# Altium footprint library NanoEEG_v2_MCU.PcbLib: 26 footprints (part 1 of 2)
Each footprint in its own frame and in the unit in brackets; x right, y up, seen from the top. Pads: shape width x height; smd on the part's side, far side on the other; paste and mask are expansions set on the pad; w line width, h text height; cw(c..) or ccw(c..) is an arc to the next point about the centre after c.
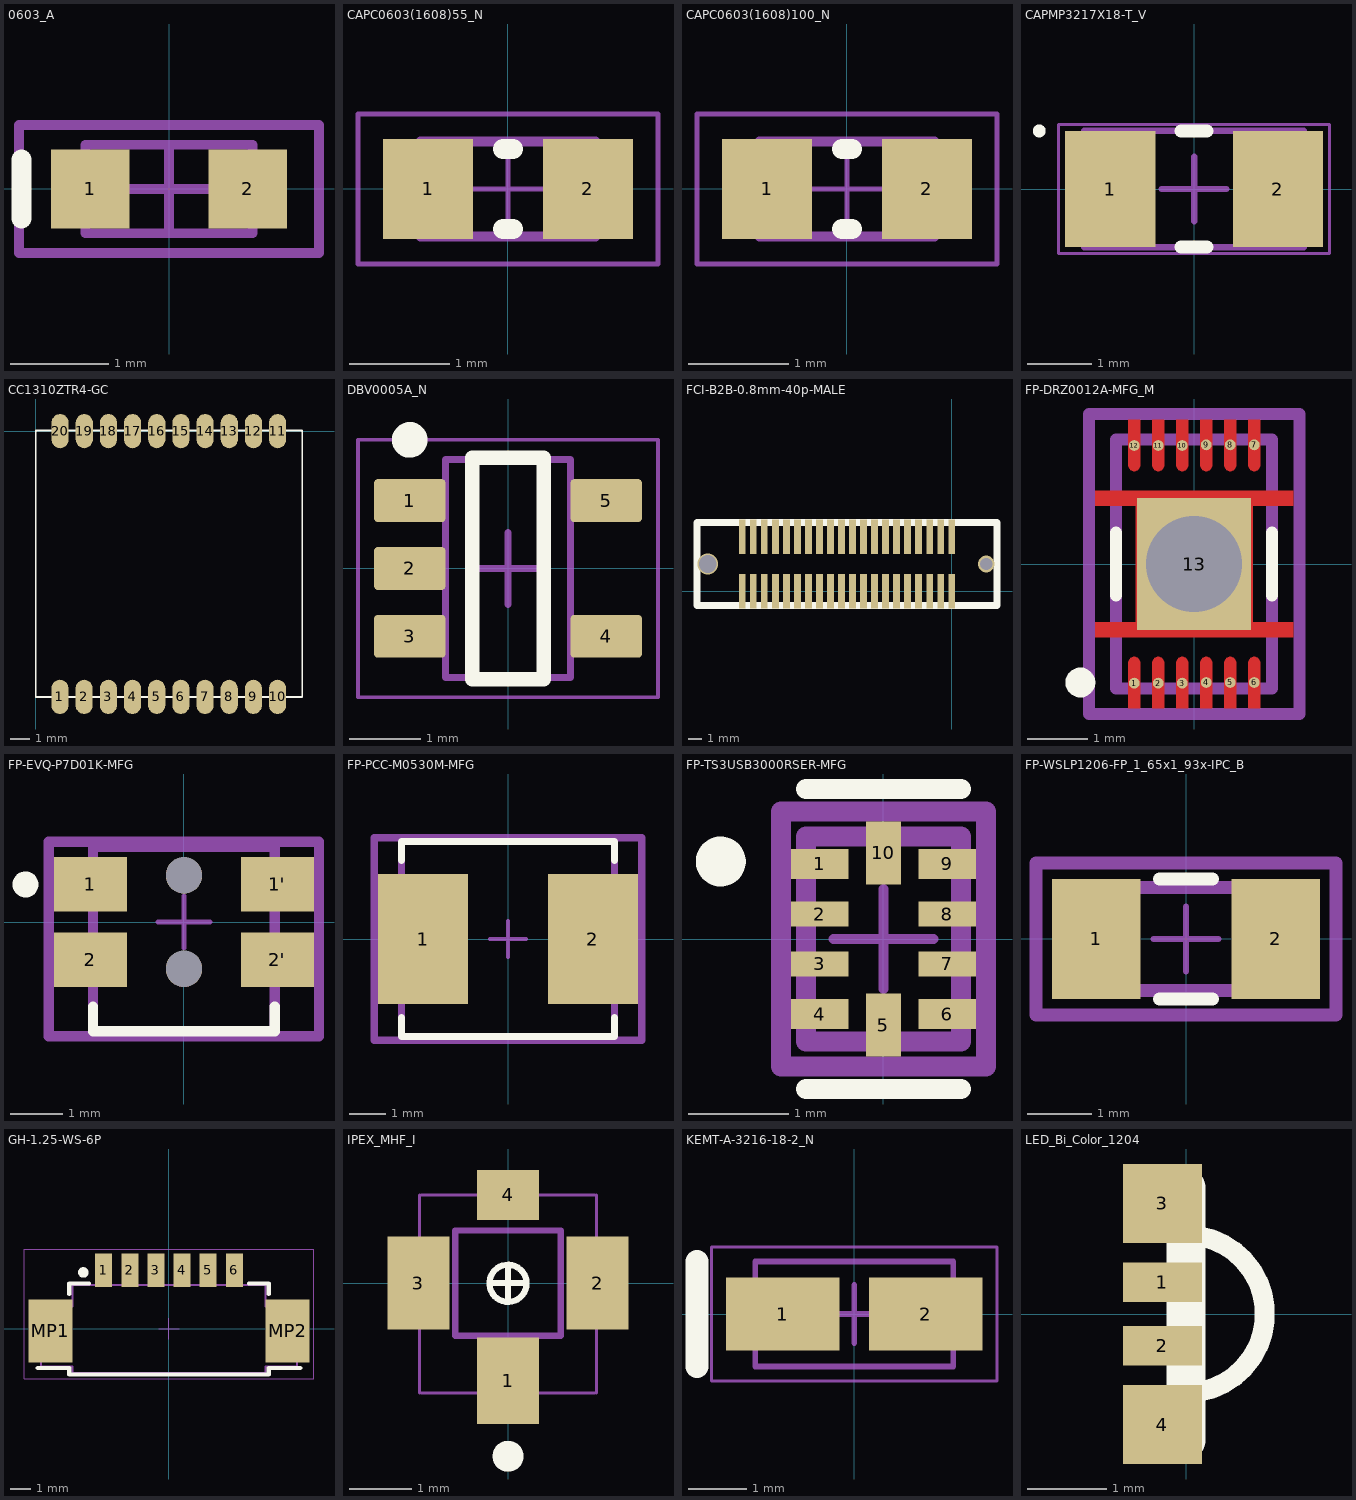
[diagram p0: the footprints below, top view; thin cyan lines are the x and y axes]

## 0603_A [mm]
pads (2):
  rect 0.8x0.8 smd: 1(-0.8,0) 2(0.8,0)
Top Overlay:
  lines w0.2: -1.5,-0.3 -1.5,0.3
Mechanical 13:
  lines w0.1: -0.85,-0.45 0.85,-0.45 0.85,0.45 -0.85,0.45 -0.85,-0.45
Mechanical 15:
  lines w0.1: -0.45,0 0.45,0 ; 0,-0.45 0,0.45 ; -1.525,-0.65 1.525,-0.65 1.525,0.65 -1.525,0.65 -1.525,-0.65
3D body "WL-SMCW_0603_LED.stp": height 0.7, standoff 0, extent -0.8,-0.4 0.8,0.4

## CAPC0603(1608)55_N [mm]
pads (2):
  rect 0.9x1 smd: 1(-0.8,0) 2(0.8,0)
Top Overlay:
  lines w0.2: -0.05,-0.4 0.05,-0.4 ; -0.05,0.4 0.05,0.4
Mechanical 13:
  lines w0.1: -0.875,-0.475 -0.875,0.475 0.875,0.475 0.875,-0.475 -0.875,-0.475
Mechanical 15:
  lines w0.05: -0.475,0 0.475,0 ; 0,-0.475 0,0.475 ; -1.5,-0.75 -1.5,0.75 1.5,0.75 1.5,-0.75 -1.5,-0.75
3D body: height 0.55, standoff 0, extent -0.525,-0.475 0.525,0.475
3D body: height 0.55, standoff 0, extent -0.875,-0.475 -0.525,0.475
3D body: height 0.55, standoff 0, extent 0.525,-0.475 0.875,0.475

## CAPC0603(1608)100_N [mm]
pads (2):
  rect 0.9x1 smd: 1(-0.8,0) 2(0.8,0)
Top Overlay:
  lines w0.2: -0.05,-0.4 0.05,-0.4 ; -0.05,0.4 0.05,0.4
Mechanical 13:
  lines w0.1: -0.875,-0.475 0.875,-0.475 0.875,0.475 -0.875,0.475 -0.875,-0.475
Mechanical 15:
  lines w0.05: -0.475,0 0.475,0 ; 0,-0.475 0,0.475 ; -1.5,-0.75 1.5,-0.75 1.5,0.75 -1.5,0.75 -1.5,-0.75
3D body: height 1, standoff 0, extent 0.525,-0.475 0.875,0.475
3D body: height 1, standoff 0, extent -0.875,-0.475 -0.525,0.475
3D body: height 1, standoff 0, extent -0.525,-0.475 0.525,0.475

## CAPMP3217X18-T_V [mm]
pads (2):
  rect 1.4x1.8 smd: 1(-1.3,0) 2(1.3,0)
Top Overlay:
  circle w0.1: c-2.4,0.9 r0.05
  lines w0.2: -0.2,-0.9 0.2,-0.9 ; -0.2,0.9 0.2,0.9
Mechanical 13:
  region: -1.243,0.9 -1.7,0.9 -1.7,-0.9 -1.243,-0.9
  lines w0.1: -1.7,-0.9 1.7,-0.9 1.7,0.9 -1.7,0.9 -1.7,-0.9
Mechanical 15:
  lines w0.05: -2.1,-1 -2.1,1 2.1,1 2.1,-1 -2.1,-1
  lines w0.1: -0.5,0 0.5,0 ; 0,-0.5 0,0.5
3D body "CAPMP3217X18L.step": height 1.8, standoff 0, extent -1.92,-0.9 1.92,0.9

## CC1310ZTR4-GC [mm]
pads (20):
  oval 0.9x1.8 smd: 1(1.27,-13.945) 2(2.544,-13.945) 3(3.814,-13.945) 4(5.084,-13.945) 5(6.354,-13.945) 6(7.624,-13.945) 7(8.894,-13.945) 8(10.164,-13.945) 9(11.434,-13.945) 10(12.704,-13.945) 11(12.708,0.015) 12(11.438,0.015) 13(10.168,0.015) 14(8.898,0.015) 15(7.628,0.015) 16(6.358,0.015) 17(5.088,0.015) 18(3.818,0.015) 19(2.548,0.015) 20(1.28,0.015)
Top Overlay:
  lines w0.1: 0,-13.945 0,0.055 14,0.055 14,-13.945 0,-13.945

## DBV0005A_N [mm]
pads (5):
  rrect17% 1x0.6 smd: 1(-1.375,0.95) 2(-1.375,0) 3(-1.375,-0.95) 4(1.375,-0.95) 5(1.375,0.95)
Top Overlay:
  circle w0.25: c-1.375,1.8 r0.125
  lines w0.2: -0.5,-1.55 0.5,-1.55 0.5,1.55 -0.5,1.55 -0.5,-1.55
Mechanical 1:
Mechanical 13:
  lines w0.1: -0.875,-1.525 -0.875,1.525 0.875,1.525 0.875,-1.525 -0.875,-1.525
Mechanical 15:
  lines w0.05: -2.1,-1.8 -2.1,1.8 2.1,1.8 2.1,-1.8 -2.1,-1.8
  lines w0.1: -0.5,0 0.5,0 ; 0,-0.5 0,0.5
3D body "DBV0005AaksMF05A.stp": height 1.08, standoff -0.01, extent -1.422,-1.461 1.422,1.46

## FCI-B2B-0.8mm-40p-MALE [mm]
pads (42):
  rect 0.5x2.5 smd: 1(0,0) 1(0,0) 2(0,3.93) 2(0,3.93) 3(-0.8,0) 4(-0.8,3.93) 5(-1.6,0) 6(-1.6,3.93) 7(-2.4,0) 8(-2.4,3.93) 9(-3.2,0) 10(-3.2,3.93) 11(-4,0) 12(-4,3.93) 13(-4.8,0) 14(-4.8,3.93) 15(-5.6,0) 16(-5.6,3.93) 17(-6.4,0) 18(-6.4,3.93) 19(-7.2,0) 20(-7.2,3.93) 21(-8,0) 22(-8,3.93) 23(-8.8,0) 24(-8.8,3.93) 25(-9.6,0) 26(-9.6,3.93) 27(-10.4,0) 28(-10.4,3.93) 29(-11.2,0) 30(-11.2,3.93) 31(-12,0) 32(-12,3.93) 33(-12.8,0) 34(-12.8,3.93) 35(-13.6,0) 36(-13.6,3.93) 37(-14.4,0) 38(-14.4,3.93) 39(-15.2,0) 40(-15.2,3.93)
via -17.7,1.965 diameter 1.5 hole 1.3
via 2.5,1.965 diameter 1.2 hole 0.9
Top Overlay:
  lines w0.5: -18.48,-1.035 -18.48,1.965 -18.48,4.965 3.28,4.965 3.28,1.965 3.28,-1.035 -18.48,-1.035
3D body "c-1-5177986-1-d-3d.stp": height 5.6, standoff -0.5, extent -18.5,-1.035 3.3,4.965
3D body: height 0.25, standoff -11, extent -7.6,1.965 -7.6,1.965

## FP-DRZ0012A-MFG_M [mm]
pads (13):
  round 0.18 smd paste-1000 mask+0: 1(-1,-1.985) 2(-0.6,-1.985) 3(-0.2,-1.985) 4(0.2,-1.975) 5(0.6,-1.975) 6(1,-1.975) 7(1,1.985) 8(0.6,1.985) 9(0.2,1.985) 10(-0.2,1.975) 11(-0.6,1.975) 12(-1,1.975)
  rect 1.9x2.2 hole 1.6 paste-1000 mask+0: 13(0,0)
Top Layer:
  region: -1.65,1.225 1.65,1.225 1.65,0.975 0.975,0.975 0.975,-0.975 1.65,-0.975 1.65,-1.225 -1.65,-1.225 -1.65,-0.975 -0.975,-0.975 -0.975,0.975 -1.65,0.975
  region: -1.1,-2.4 -1.1,-1.65 -1.1,-1.63 -1.085,-1.593 -1.057,-1.565 -1.02,-1.55 -1,-1.55 -0.98,-1.55 -0.943,-1.565 -0.915,-1.593 -0.9,-1.63 -0.9,-1.65 -0.9,-2.4
  region: -0.7,-2.4 -0.7,-1.65 -0.7,-1.63 -0.685,-1.593 -0.657,-1.565 -0.62,-1.55 -0.6,-1.55 -0.58,-1.55 -0.543,-1.565 -0.515,-1.593 -0.5,-1.63 -0.5,-1.65 -0.5,-2.4
  region: -0.3,-2.4 -0.3,-1.65 -0.3,-1.63 -0.285,-1.593 -0.257,-1.565 -0.22,-1.55 -0.2,-1.55 -0.18,-1.55 -0.143,-1.565 -0.115,-1.593 -0.1,-1.63 -0.1,-1.65 -0.1,-2.4
  region: 0.1,-2.4 0.1,-1.65 0.1,-1.63 0.115,-1.593 0.143,-1.565 0.18,-1.55 0.2,-1.55 0.22,-1.55 0.257,-1.565 0.285,-1.593 0.3,-1.63 0.3,-1.65 0.3,-2.4
  region: 0.5,-2.4 0.5,-1.65 0.5,-1.63 0.515,-1.593 0.543,-1.565 0.58,-1.55 0.6,-1.55 0.62,-1.55 0.657,-1.565 0.685,-1.593 0.7,-1.63 0.7,-1.65 0.7,-2.4
  region: 0.9,-2.4 0.9,-1.65 0.9,-1.63 0.915,-1.593 0.943,-1.565 0.98,-1.55 1,-1.55 1.02,-1.55 1.057,-1.565 1.085,-1.593 1.1,-1.63 1.1,-1.65 1.1,-2.4
  region: 1.1,2.4 1.1,1.65 1.1,1.63 1.085,1.593 1.057,1.565 1.02,1.55 1,1.55 0.98,1.55 0.943,1.565 0.915,1.593 0.9,1.63 0.9,1.65 0.9,2.4
  region: 0.7,2.4 0.7,1.65 0.7,1.63 0.685,1.593 0.657,1.565 0.62,1.55 0.6,1.55 0.58,1.55 0.543,1.565 0.515,1.593 0.5,1.63 0.5,1.65 0.5,2.4
  region: 0.3,2.4 0.3,1.65 0.3,1.63 0.285,1.593 0.257,1.565 0.22,1.55 0.2,1.55 0.18,1.55 0.143,1.565 0.115,1.593 0.1,1.63 0.1,1.65 0.1,2.4
  region: -0.1,2.4 -0.1,1.65 -0.1,1.63 -0.115,1.593 -0.143,1.565 -0.18,1.55 -0.2,1.55 -0.22,1.55 -0.257,1.565 -0.285,1.593 -0.3,1.63 -0.3,1.65 -0.3,2.4
  region: -0.5,2.4 -0.5,1.65 -0.5,1.63 -0.515,1.593 -0.543,1.565 -0.58,1.55 -0.6,1.55 -0.62,1.55 -0.657,1.565 -0.685,1.593 -0.7,1.63 -0.7,1.65 -0.7,2.4
  region: -0.9,2.4 -0.9,1.65 -0.9,1.63 -0.915,1.593 -0.943,1.565 -0.98,1.55 -1,1.55 -1.02,1.55 -1.057,1.565 -1.085,1.593 -1.1,1.63 -1.1,1.65 -1.1,2.4
Top Overlay:
  circle w0.25: c-1.9,-1.975 r0.125
  lines w0.2: -1.3,-0.525 -1.3,0.525 ; 1.3,-0.525 1.3,0.525
Top Paste:
  drawing of 20 lines, arcs and shapes, not listed
Top 3D Body:
  lines w0.2: -1.3,-2.075 1.3,-2.075 1.3,2.075 -1.3,2.075 -1.3,-2.075
Top Courtyard:
  lines w0.2: -1.75,-2.5 1.75,-2.5 1.75,2.5 -1.75,2.5 -1.75,-2.5
Top Assembly:
  lines w0.2: -1.75,-2.5 1.75,-2.5 1.75,2.5 -1.75,2.5 -1.75,-2.5
  text ".Designator" at -2.134,-0.33 h1
Top Component Center:
  lines w0.1: -0.5,0 0.5,0 ; 0,-0.5 0,0.5
3D body "IC_Texas_Instruments_BQ27441DRZR-G1A_eec.STEP": height 0.25, standoff 0, extent -1.75,-2.5 1.75,2.5

## FP-EVQ-P7D01K-MFG [mm]
pads (6):
  rect 1.4x1.05 smd paste+0 mask+0: 1(-1.8,0.725) 1'(1.8,0.725) 2(-1.8,-0.725) 2'(1.8,-0.725)
  round 0.7 hole 0.7 unplated paste-1000 mask+0: ""(0,-0.9) ""(0,0.9)
Top Overlay:
  circle w0.25: c-3.05,0.725 r0.125
  lines w0.2: -1.75,-1.625 -1.75,-2.1 1.75,-2.1 1.75,-1.625
Top 3D Body:
  lines w0.2: -1.75,-2.1 -1.75,1.45 1.75,1.45 1.75,-2.1 -1.75,-2.1
Top Courtyard:
  lines w0.2: -2.6,-2.2 -2.6,1.55 2.6,1.55 2.6,-2.2 -2.6,-2.2
Top Assembly:
  lines w0.2: -2.6,-2.2 -2.6,1.55 2.6,1.55 2.6,-2.2 -2.6,-2.2
  text ".Designator" at 0,-0.325 h1
Top Component Center:
  lines w0.1: -0.5,0 0.5,0 ; 0,-0.5 0,0.5
3D body "Switch_Panasonic_Electronic_Components_EVQ-P7D01K_eec.STEP": height 0.25, standoff 0, extent -2.6,-2.2 2.6,1.55

## FP-PCC-M0530M-MFG [mm]
pads (2):
  rect 2.5x3.6 smd paste+0 mask+0: 1(-2.35,0) 2(2.35,0)
Top Overlay:
  lines w0.2: -2.95,-2.175 -2.95,-2.7 2.95,-2.7 2.95,-2.175 ; -2.95,2.175 -2.95,2.7 2.95,2.7 2.95,2.175
Top 3D Body:
  lines w0.2: -2.95,-2.7 2.95,-2.7 2.95,2.7 -2.95,2.7 -2.95,-2.7
Top Courtyard:
  lines w0.2: -3.7,-2.8 3.7,-2.8 3.7,2.8 -3.7,2.8 -3.7,-2.8
Top Assembly:
  lines w0.2: -3.7,-2.8 3.7,-2.8 3.7,2.8 -3.7,2.8 -3.7,-2.8
  text ".Designator" at 0,0.188 h0.76
Top Component Center:
  lines w0.1: -0.5,0 0.5,0 ; 0,-0.5 0,0.5
3D body "Ind_Panasonic_ETQ-P3M2R2YFP_eec.STEP": height 0.25, standoff 0, extent -3.7,-2.8 3.7,2.8

## FP-TS3USB3000RSER-MFG [mm]
pads (10):
  rect 0.575x0.3 smd paste-1000 mask+0: 1(-0.637,0.75) 4(-0.637,-0.75) 6(0.637,-0.75) 9(0.637,0.75)
  rect 0.575x0.25 smd paste-1000 mask+0: 2(-0.637,0.25) 3(-0.637,-0.25) 7(0.637,-0.25) 8(0.637,0.25)
  rect 0.35x0.63 smd paste-1000 mask+0: 5(0,-0.86) 10(0,0.86)
Top Overlay:
  circle w0.25: c-1.625,0.775 r0.125
  lines w0.2: -0.775,-1.5 0.775,-1.5 ; -0.775,1.5 0.775,1.5
Top Paste:
  rectangle: -0.9,0.625 -0.375,0.875
  rectangle: -0.9,0.125 -0.375,0.375
  rectangle: -0.9,-0.375 -0.375,-0.125
  rectangle: -0.9,-0.875 -0.375,-0.625
  rectangle: 0.375,-0.875 0.9,-0.625
  rectangle: 0.375,-0.375 0.9,-0.125
  rectangle: 0.375,0.125 0.9,0.375
  rectangle: 0.375,0.625 0.9,0.875
  rectangle: -0.15,-1.15 0.15,-0.57
  rectangle: -0.15,0.57 0.15,1.15
Top 3D Body:
  lines w0.2: -0.775,-1.025 0.775,-1.025 0.775,1.025 -0.775,1.025 -0.775,-1.025
Top Courtyard:
  lines w0.2: -1.025,-1.275 1.025,-1.275 1.025,1.275 -1.025,1.275 -1.025,-1.275
Top Assembly:
  lines w0.2: -1.025,-1.275 1.025,-1.275 1.025,1.275 -1.025,1.275 -1.025,-1.275
  text ".Designator" at 0,0.188 h1
Top Component Center:
  lines w0.1: -0.5,0 0.5,0 ; 0,-0.5 0,0.5
3D body "IC_Texas_Instruments_TS3USB3000RSER_eec.STEP": height 0.25, standoff 0, extent -1.025,-1.275 1.025,1.275

## FP-WSLP1206-FP_1_65x1_93x-IPC_B [mm]
pads (2):
  rect 1.37x1.859 smd paste+0 mask+0: 1(-1.395,0) 2(1.395,0)
Top Overlay:
  lines w0.2: -0.41,-0.929 0.41,-0.929 ; -0.41,0.929 0.41,0.929
Top 3D Body:
  lines w0.2: -1.6,-0.8 1.6,-0.8 1.6,0.8 -1.6,0.8 -1.6,-0.8
Top Courtyard:
  lines w0.2: -2.329,-1.179 2.329,-1.179 2.329,1.179 -2.329,1.179 -2.329,-1.179
Top Assembly:
  lines w0.2: -2.329,-1.179 2.329,-1.179 2.329,1.179 -2.329,1.179 -2.329,-1.179
  text ".Designator" at 0,0.188 h1
Top Component Center:
  lines w0.1: -0.5,0 0.5,0 ; 0,-0.5 0,0.5
3D body "Res_Vishay_WSLP1206R0100FEA_eec.STEP": height 0.25, standoff 0, extent -2.329,-1.179 2.329,1.179

## GH-1.25-WS-6P [mm]
pads (8):
  rect 0.81x1.6 smd: 1(-3.125,2.8) 2(-1.875,2.8) 3(-0.625,2.8) 4(0.625,2.8) 5(1.875,2.8) 6(3.125,2.8)
  rect 2.1x3 smd: MP1(-5.675,-0.1) MP2(5.675,-0.1)
Top Overlay:
  circle w0.25: c-4.1,2.7 r0.125
  lines w0.2: -6.275,-1.875 -4.775,-1.875 -4.775,-2.175 4.775,-2.175 4.775,-1.875 6.275,-1.875 ; -4.775,1.675 -4.775,2.175 -3.825,2.175 ; 3.825,2.175 4.775,2.175 4.775,1.675
Mechanical 13:
  lines w0.1: -6.125,-1.78 -6.125,1.08 -4.625,1.08 -4.625,2.1 4.625,2.1 4.625,1.08 6.125,1.08 6.125,-1.78 ; -6.105,-1.8 -4.625,-1.8 -4.625,-2.1 4.625,-2.1 4.625,-1.8 6.105,-1.8
Mechanical 15:
  lines w0.05: -0.5,0 0.5,0 ; 0,-0.5 0,0.5 ; -6.925,-2.375 -6.925,3.8 6.925,3.8 6.925,-2.375 -6.925,-2.375
3D body "653106131822.stp": height 3.4, standoff -0.01, extent -6.125,-2.1 6.125,3.3

## IPEX_MHF_I [mm]
pads (4):
  rect 1x1.4 smd: 1(0,-1.575)
  rect 1x1.5 smd: 2(1.448,0) 3(-1.448,0)
  rect 1x0.8 smd: 4(0,1.422)
Top Overlay:
  circle w0.25: c0,-2.794 r0.125
  circle w0.1: c0,-0.003 r0.3
  lines w0.1: -0.25,0 0.25,0 ; 0,-0.25 0,0.25
Mechanical 13:
  lines w0.1: -0.85,-0.85 -0.85,0.85 0.85,0.85 0.85,-0.85 -0.85,-0.85
Mechanical 15:
  lines w0.05: -1.425,-1.775 -1.425,1.425 ; -1.4,-1.775 1.4,-1.775 ; -1.4,1.425 1.4,1.425 ; 1.425,-1.775 1.425,1.425
  lines w0.1: -0.25,0 0.25,0 ; 0,-0.25 0,0.25
3D body: height 0.85, standoff 0, extent -0.85,-0.85 0.85,0.85

## KEMT-A-3216-18-2_N [mm]
pads (2):
  rect 1.95x1.25 smd: 1(-1.225,0) 2(1.225,0)
Top Overlay:
  lines w0.4: -2.7,-0.9 -2.7,0.9
Mechanical 13:
  lines w0.1: -1.7,-0.9 -1.7,0.9 1.7,0.9 1.7,-0.9 -1.7,-0.9
Mechanical 15:
  lines w0.05: -2.45,-1.15 -2.45,1.15 2.45,1.15 2.45,-1.15 -2.45,-1.15
  lines w0.1: -0.5,0 0.5,0 ; 0,-0.5 0,0.5
3D body: height 1.8, standoff 0, extent -1.7,-0.9 1.7,0.9

## LED_Bi_Color_1204 [mm]
pads (4):
  rect 1x0.5 smd: 1(-0.3,0.4) 2(-0.3,-0.4)
  rect 1x1 smd: 3(-0.3,1.4) 4(-0.3,-1.4)
Top Overlay:
  lines w0.254: 0,-1 ccw(c0,0) 0,1
  lines w0.5: 0,-1.6 0,0 0,1.6
3D body "LED1204.STEP": height 1, standoff 0, extent -0.25,-1.6 1,1.6